# Altium schematic symbol library 1825910-2.SchLib: 1 symbol
Pins are listed as number, name and electrical type; pins without a type are passive.

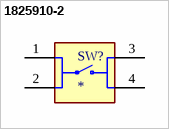
[diagram p0: symbol 1825910-2]

## 1825910-2
designator SW?
SWITCH TACTILE SPST-NO 0.05A 24V; MP: 1825910-2; MF: {'manufacturer': u'TE Connectivity'}; Package: None; Price: None; Value: *; Availability: Unavailable
footprint TE_1825910-2
pins: 1, 2, 3, 4